# Altium integrated library LED Lighting - Color.IntLib: 2 symbols
Pins are listed as number, name and electrical type; pins without a type are passive.

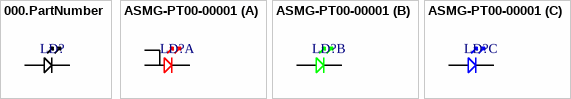
[diagram p0: symbols 000.PartNumber to ASMG-PT00-00001]

## 000.PartNumber
designator LD?  (value not drawn)
Digikey Description; Manufacturer: *; Series: *; Package: *; Color: *; Wavelength: *; Current - Test: *; Voltage - Forward (Vf) (Typ): *; Lumens/Watt @ Current - Test: *; Current - Max: *; Luminous Flux @ Current/Temperature: *; Temperature - Test: *; Viewing Angle: *; Mounting Type: *; Package / Case: *; Supplier Device Package: *; Size / Dimension: *; Height - Seated (Max): *; Thermal Resistance of Package: *; Base Product Number: *; Ozdisan Link: *; Digikey Link: *; Farnell TR Link: *; Mouser Link: *
pins: 1 R+, 2 R-

## ASMG-PT00-00001
designator LD?  (value not drawn)
LED 1W TRI-COLOR HIGH POWER; Manufacturer: Broadcom Limited; Color: Red, Green, Blue (RGB); Wavelength: 623nm Red, 530nm Green, 458nm Blue; Current - Test: 150 mA; Voltage - Forward (Vf) (Typ): 2.2V Red, 3.1V Green, 3.0V Blue; Lumens/Watt @ Current - Test: 68 lm/W Red, 74 lm/W Green, 17 lm/W Blue; Current - Max: 200 mA; Luminous Flux @ Current/Temperature: 30lm Red, 46lm Green, 10lm Blue; Temperature - Test: 25°C; Viewing Angle: 155°; Base Product Number: ASMG-PT00; Series: -; Package: Tape & Reel (TR); Mounting Type: Surface Mount; Package / Case: 6-SMD; Supplier Device Package: -; Size / Dimension: 0.157" L x 0.157" W (4.00mm x 4.00mm); Height - Seated (Max): 0.081" (2.05mm); Thermal Resistance of Package: -; Ozdisan Link: -; Digikey Link: https://www.digikey.com/en/products/detail/broadcom-limited/ASMG-PT00-00001/7622377; Farnell TR Link: https://tr.farnell.com/broadcom-limited/asmg-pt00-00001/led-hb-rgb-28-45-9-5lm/dp/2858851?st=asmg-pt00-00001; Mouser Link: https://eu.mouser.com/ProductDetail/Broadcom-Avago/ASMG-PT00-00001?qs=%2Fha2pyFadugt9yoShNYsyKCVlyTleexhZU9lcdmJ0HWK%2FVe4orUYJQ%3D%3D
footprint BROADCOM_ASMG-PT00-00001
part A pins: 1 R+, 2 R-, TP
part B pins: 3 G+, 4 G-
part C pins: 5 B+, 6 B-